# EAGLE library part 87437-1243 (library custom)
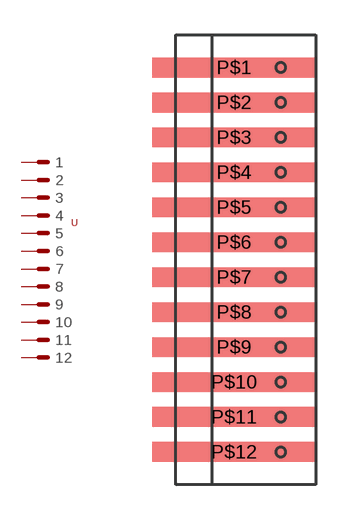
[diagram p15: symbol with the pads of 87437-1243; footprint 87437-1243]

Designator prefix -

## 87437-1243  [87437-1243]
P$1  1
P$2  2
P$3  3
P$4  4
P$5  5
P$6  6
P$7  7
P$8  8
P$9  9
P$10  10
P$11  11
P$12  12

## Footprint 87437-1243 (pad centres in mm)
smd 7 x 0.85: P$1 0.27,8.31; P$2 0.27,6.81; P$3 0.27,5.31; P$4 0.27,3.81; P$5 0.27,2.31; P$6 0.27,0.81; P$7 0.27,-0.69; P$8 0.27,-2.19; P$9 0.27,-3.69; P$10 0.27,-5.19; P$11 0.27,-6.69; P$12 0.27,-8.19